# EAGLE library part RFID (library SPCoast)
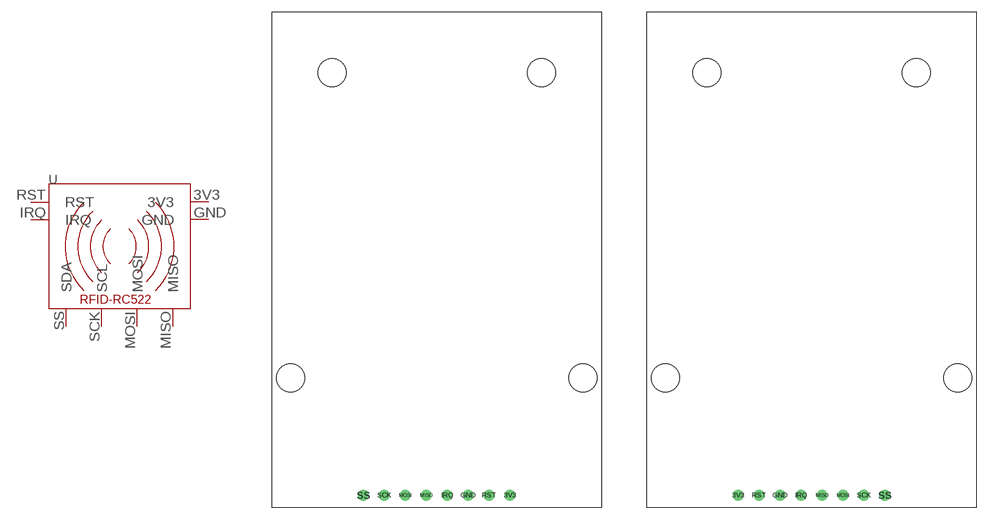
[diagram p51: symbol with the pads of RC522; footprints RC522, RC522-REVERSE]

Designator prefix -

## RFIDFRONT  [RC522]
3V3  3V3
GND  GND
IRQ  IRQ
MISO  MISO
MOSI  MOSI
RST  RST
SCK  SCL
SS  SDA

## RFIDBACK  [RC522-REVERSE]
Pads as for RC522

## Footprint RC522 (pad centres in mm)
drill 0.8: 3V3 8.89,-28.575; GND 3.81,-28.575; IRQ 1.27,-28.575; MISO -1.27,-28.575; MOSI -3.81,-28.575; RST 6.35,-28.575; SCK -6.35,-28.575; SS -8.89,-28.575
hole 3.4 at 12.7,22.7
hole 3.4 at -12.7,22.7
hole 3.4 at 17.7,-14.3
hole 3.4 at -17.7,-14.3

## Footprint RC522-REVERSE (pad centres in mm)
drill 0.8: 3V3 -8.89,-28.575; GND -3.81,-28.575; IRQ -1.27,-28.575; MISO 1.27,-28.575; MOSI 3.81,-28.575; RST -6.35,-28.575; SCK 6.35,-28.575; SS 8.89,-28.575
hole 3.4 at 12.7,22.7
hole 3.4 at -12.7,22.7
hole 3.4 at 17.7,-14.3
hole 3.4 at -17.7,-14.3